# Altium footprint library PCB - CAPACITOR - CHIP - CAPC_1206.PCBLIB: 1 footprints
Each footprint in its own frame and in the unit in brackets; x right, y up, seen from the top. Pads: shape width x height; smd on the part's side, far side on the other; paste and mask are expansions set on the pad; w line width, h text height; cw(c..) or ccw(c..) is an arc to the next point about the centre after c.
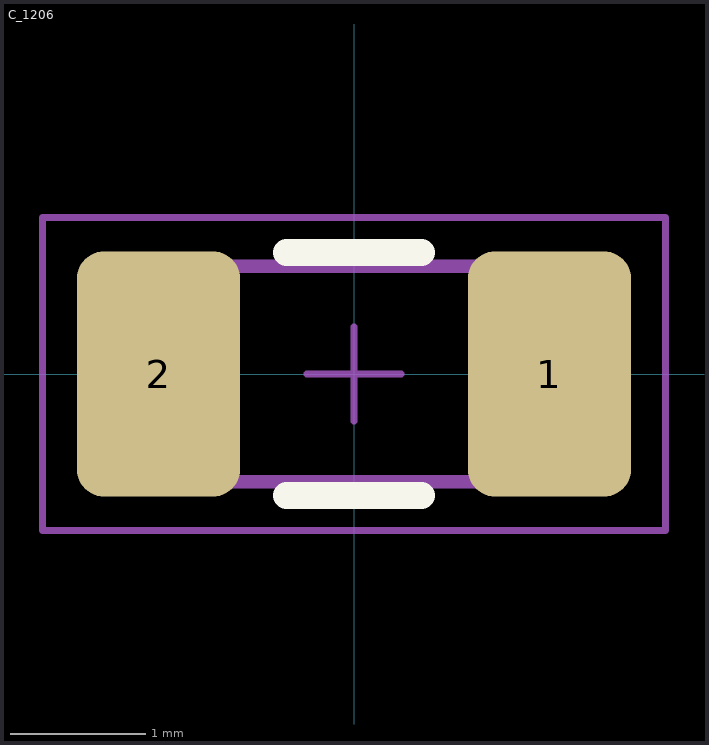
[diagram p0: the footprint, top view; thin cyan lines are the x and y axes]

## C_1206 [mm]
height 1.8
pads (2):
  rrect33% 1.21x1.82 smd: 1(1.45,0) 2(-1.45,0)
Top Overlay:
  lines w0.2: -0.5,-0.9 0.5,-0.9 ; -0.5,0.9 0.5,0.9
Top Assembly:
  lines w0.1: -1.1,-0.8 -1.1,0.8 ; 1.1,-0.8 1.1,0.8 ; -1.6,-0.8 -1.6,0.8 1.6,0.8 1.6,-0.8 -1.6,-0.8
Top Courtyard:
  lines w0.05: -2.31,-1.16 2.31,-1.16 2.31,1.16 -2.31,1.16 -2.31,-1.16
Top Designator:
  text ".Designator" at 2.6,0.275 h1
Top Component Center:
  lines w0.05: -0.35,0 0.35,0 ; 0,-0.35 0,0.35
Top Value:
  text ".Comment" at 2.6,-0.7 h1
3D body "User Library-CAPC3216X___CAPC3216X180N.STEP": height 1.82, standoff 0, extent -1.6,-0.81 1.6,0.81